# Altium footprint library BMS 2S.PcbLib: 1 footprints
Each footprint in its own frame and in the unit in brackets; x right, y up, seen from the top. Pads: shape width x height; smd on the part's side, far side on the other; paste and mask are expansions set on the pad; w line width, h text height; cw(c..) or ccw(c..) is an arc to the next point about the centre after c.
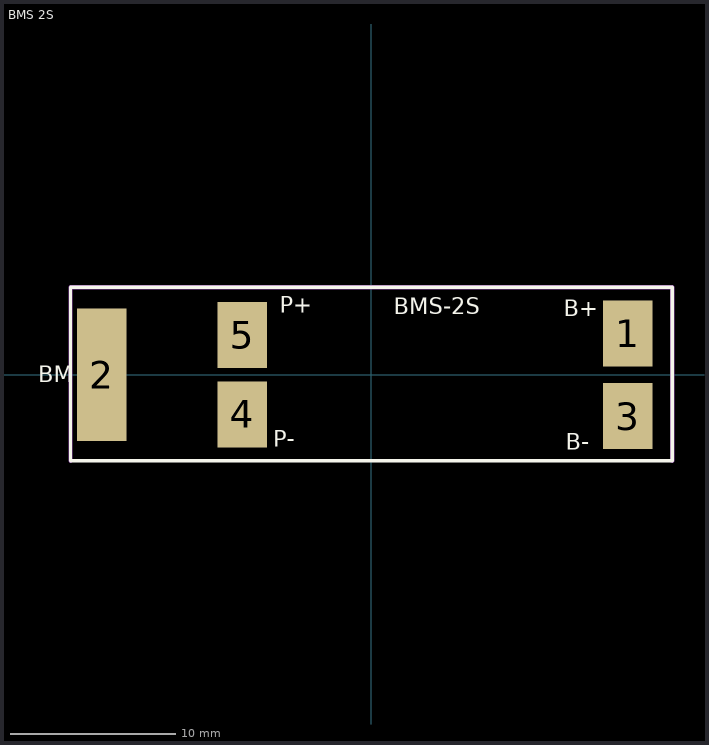
[diagram p0: the footprint, top view; thin cyan lines are the x and y axes]

## BMS 2S [mm]
height 0.55
pads (5):
  rect 3x4 / inner rect 3x4 / far side rect 0x0 all layers, no hole: 1(15.5,2.5) 3(15.5,-2.5) 4(-7.8,-2.4) 5(-7.8,2.4)
  rect 3x8 / inner rect 3x8 / far side rect 0x0 all layers, no hole: 2(-16.3,0)
Top Overlay:
  lines w0.2: -18.2,-5.2 18.2,-5.2 18.2,5.3 -18.2,5.3 -18.2,-5.2
  text "BM" at -20.146,-0.446 h1
  text "P-" at -5.946,-4.346 h1
  text "P+" at -5.546,3.754 h1
  text "B-" at 11.754,-4.546 h1
  text "B+" at 11.654,3.554 h1
  text "BMS-2S" at 1.354,3.654 h1
Top Assembly:
  lines w0.254: -18.2,-5.2 -18.2,5.3 18.2,5.3 18.2,-5.2
  text "'.Designator'" at -0.975,-0.35 h0.7
3D body "2S 3A 5A Li-ion Lithium Battery 18650 Charger BMS Protection Board Module 7.4V 8.4V datasheet pdf.STEP": height 2.5, standoff 0.3, extent -18,-3 18,3